# Altium schematic symbol library HarringtonSchematicLibrary.SchLib: 1 symbol
Pins are listed as number, name and electrical type; pins without a type are passive.

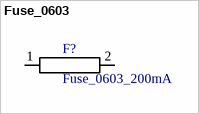
[diagram p0: symbol Fuse_0603]

## Fuse_0603
designator F?, comment Fuse_0603_200mA
-55℃~+90℃ 0.00056 0.8mm 1.6mm 200mA 32V 50A Surface Mount Fuse 0603 Disposable fuses ROHS; Manufacturer Part Number: 06F-0200L1; Manufacturer: Holly; Voltage Rating: 32V; Package Size: 0603; Assembly Type: SMT Assembly
footprint Fuse_0603 (Chip Resistor, 2-Leads, Body 1.60x0.86mm, IPC Medium Density)
pins: 1, 2